# EAGLE library part 74HC4017 (library IC_Logic)
Johnson Decade Counter/Divider with 10 decoded outputs Reference Datasheet <https://www.ti.com/lit/ds/symlink/cd74hc4017.pdf?ts=1637568707086&ref_url=https%253A%252F%252Fwww.google.com%252F>
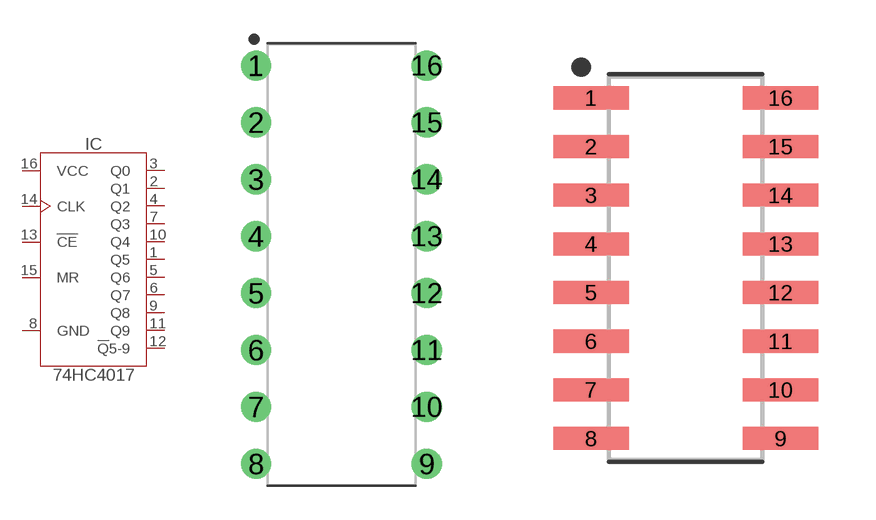
[diagram p17: symbol with the pads of DIP762W53P254L1969H508Q16B; footprints DIP762W53P254L1969H508Q16B, SOIC127P600X175-16N]

Designator prefix IC

## 74HC4017_PDIP (CATEGORY: IC_Logic; DESCRIPTION: Johnson decade Counter/DIVIDER; MANUFACTURER: Generic; MPN: Generic; SUB-CATEGORY: Counter; TYPE: Decade; VALUE: 74HC4017)  [DIP762W53P254L1969H508Q16B]
1  Q5  out
2  Q1  out
3  Q0  out
4  Q2  out
5  Q6  out
6  Q7  out
7  Q3  out
8  GND
9  Q8  out
10  Q4  out
11  Q9  out
12  !Q!5-9  out
13  !CE  in
14  CLK  in
15  MR  in
16  VCC

## 74HC4017_SOIC (CATEGORY: IC_Logic; DESCRIPTION: Johnson decade Counter/DIVIDER; MANUFACTURER: Generic; MPN: Generic; SUB-CATEGORY: Counter; TYPE: Decade; VALUE: 74HC4017)  [SOIC127P600X175-16N]
Pads as for DIP762W53P254L1969H508Q16B

## Footprint DIP762W53P254L1969H508Q16B (pad centres in mm)
16-DIP, 2.54 mm (0.10 in) pitch, 7.62 mm (0.30 in) span, 19.69 X 6.6 X 5.08 mm body 16-pin DIP package with 2.54 mm (0.10 in) pitch, 7.62 mm (0.30 in) span with body size 19.69 X 6.6 X 5.08 mm
drill 0.743 pad 1.343: 1 -3.81,8.89; 2 -3.81,6.35; 3 -3.81,3.81; 4 -3.81,1.27; 5 -3.81,-1.27; 6 -3.81,-3.81; 7 -3.81,-6.35; 8 -3.81,-8.89; 9 3.81,-8.89; 10 3.81,-6.35; 11 3.81,-3.81; 12 3.81,-1.27; 13 3.81,1.27; 14 3.81,3.81; 15 3.81,6.35; 16 3.81,8.89

## Footprint SOIC127P600X175-16N (pad centres in mm)
16-SOIC, 1.27 mm pitch, 6.00 mm span, 9.90 X 3.90 X 1.75 mm body 16-pin SOIC package with 1.27 mm pitch, 6.00 mm span with body size 9.90 X 3.90 X 1.75 mm
smd 1.969 x 0.602: 1 -2.474,4.445; 2 -2.474,3.175; 3 -2.474,1.905; 4 -2.474,0.635; 5 -2.474,-0.635; 6 -2.474,-1.905; 7 -2.474,-3.175; 8 -2.474,-4.445; 9 2.474,-4.445; 10 2.474,-3.175; 11 2.474,-1.905; 12 2.474,-0.635; 13 2.474,0.635; 14 2.474,1.905; 15 2.474,3.175; 16 2.474,4.445